# Altium footprint library PCB - POWER INDUCTORS - CD54.PcbLib: 1 footprints
Each footprint in its own frame and in the unit in brackets; x right, y up, seen from the top. Pads: shape width x height; smd on the part's side, far side on the other; paste and mask are expansions set on the pad; w line width, h text height; cw(c..) or ccw(c..) is an arc to the next point about the centre after c.
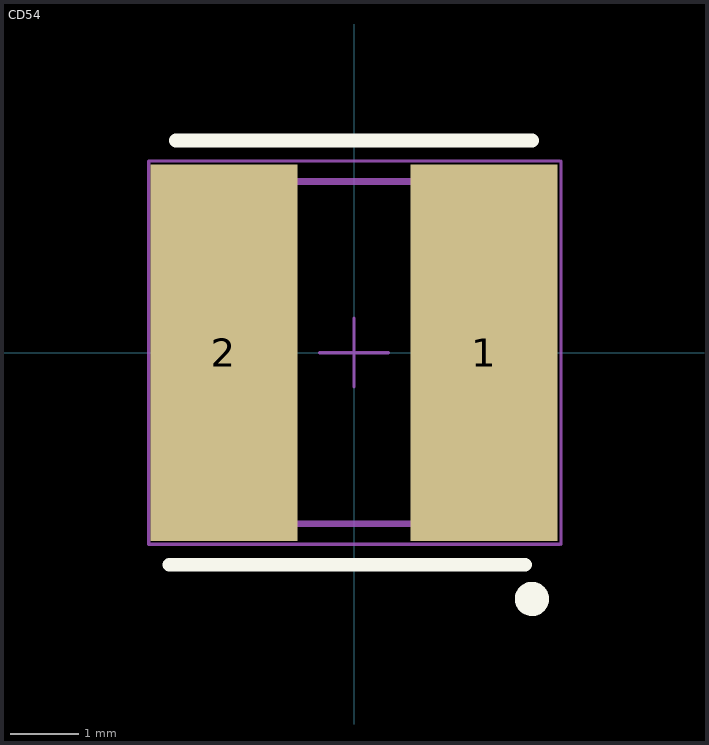
[diagram p0: the footprint, top view; thin cyan lines are the x and y axes]

## CD54 [mm] "SMD Power Inductor, 2-Leads, body 5.8x5.2mm"
height 4.5
pads (2):
  rect 2.15x5.5 smd: 1(1.9,0) 2(-1.9,0)
Top Overlay:
  circle w0.25: c2.6,-3.6 r0.125
  lines w0.2: -2.7,-3.1 2.5,-3.1 ; -2.6,3.1 2.6,3.1
Top Assembly:
  lines w0.05: -0.5,0 0.5,0 ; 0,-0.5 0,0.5
Top Component Outline:
  circle w0.1: c1.7,-1.7 r0.3
  circle w0.1: c1.7,-1.7 r0.3
  lines w0.1: -2.5,-2.5 -2.5,2.5 ; -2.5,-2.5 2.5,-2.5 ; -2.5,-2.5 -2.5,2.5 ; -2.5,-2.5 2.5,-2.5 ; -2.5,2.5 2.5,2.5 ; -2.5,2.5 2.5,2.5 ; 2.5,-2.5 2.5,2.5 ; 2.5,-2.5 2.5,2.5
Top Courtyard:
  lines w0.05: 3,-2.8 -3,-2.8 -3,2.8 3,2.8 ; 3.025,-2.8 3.025,2.8
3D body "LQS_5040.stp": height 4.03, standoff 0.03, extent -2.5,-2.5 2.5,2.5